# EAGLE library part DF13-6P-1.25DSA (library DF13-6P-1.25DSA)
Hirose DF13, 1.25mm Pitch, 6 Way, 1 Row, Straight PCB Header, Through Hole Source: Datasheet <https://componentsearchengine.com/Datasheets/2/DF13-6P-1.25DSA.pdf>
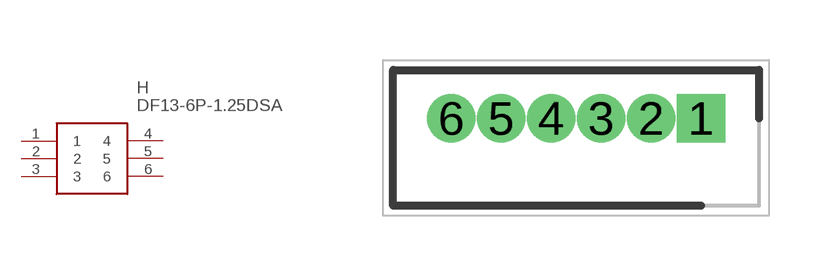
[diagram p0: symbol with the pads of SHDR6W35P0X125_1X6_915X340X430; footprint SHDR6W35P0X125_1X6_915X340X430]

Designator prefix H

## DF13-6P-1.25DSA (Description: Hirose DF13, 1.25mm Pitch, 6 Way, 1 Row, Straight PCB Header, Through Hole; Height: 4.3mm; Manufacturer_Name: Hirose; Manufacturer_Part_Number: DF13-6P-1.25DSA; Mouser_Part_Number: 798-DF13-6P-1.25DSA; Mouser_Price-Stock: https://www.mouser.com/Search/Refine.aspx?Keyword=798-DF13-6P-1.25DSA; RS_Part_Number: 5037928; RS_Price-Stock: http://uk.rs-online.com/web/p/products/5037928)  [SHDR6W35P0X125_1X6_915X340X430]
1  1
2  2
3  3
4  4
5  5
6  6

## Footprint SHDR6W35P0X125_1X6_915X340X430 (pad centres in mm)
DF13-6P-1.25DSA_a
drill 0.7 pad 1.1 square: 1 0,0
drill 0.7 pad 1.1: 2 -1.25,0; 3 -2.5,0; 4 -3.75,0; 5 -5,0; 6 -6.25,0